# EAGLE library part 133-022-03 (library dec-con)
Pseudo-edge connector, 22 pins .156" spacing.
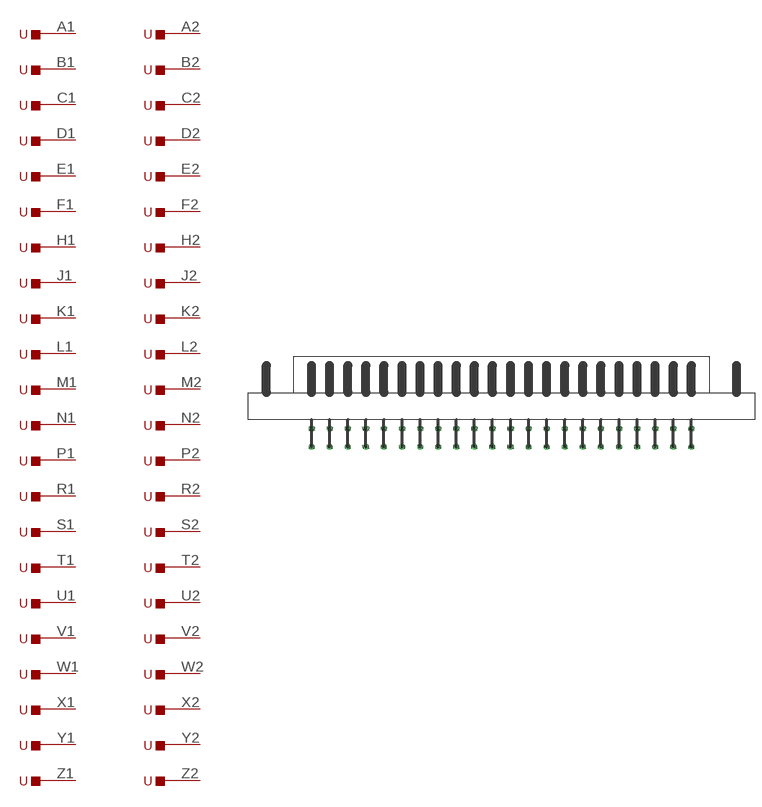
[diagram p45: symbol with the pads of 133-022-03; footprint 133-022-03]

Designator prefix U; gates A1=PIN B1=PIN C1=PIN D1=PIN E1=PIN F1=PIN H1=PIN J1=PIN K1=PIN L1=PIN M1=PIN N1=PIN P1=PIN R1=PIN S1=PIN T1=PIN U1=PIN V1=PIN W1=PIN X1=PIN Y1=PIN Z1=PIN A2=PIN B2=PIN C2=PIN D2=PIN E2=PIN F2=PIN H2=PIN J2=PIN K2=PIN L2=PIN M2=PIN N2=PIN P2=PIN R2=PIN S2=PIN T2=PIN U2=PIN V2=PIN W2=PIN X2=PIN Y2=PIN Z2=PIN

## 133-022-03  [133-022-03]
A1  A1:P  pas
A2  A2:P  pas
B1  B1:P  pas
B2  B2:P  pas
C1  C1:P  pas
C2  C2:P  pas
D1  D1:P  pas
D2  D2:P  pas
E1  E1:P  pas
E2  E2:P  pas
F1  F1:P  pas
F2  F2:P  pas
H1  H1:P  pas
H2  H2:P  pas
J1  J1:P  pas
J2  J2:P  pas
K1  K1:P  pas
K2  K2:P  pas
L1  L1:P  pas
L2  L2:P  pas
M1  M1:P  pas
M2  M2:P  pas
N1  N1:P  pas
N2  N2:P  pas
P1  P1:P  pas
P2  P2:P  pas
R1  R1:P  pas
R2  R2:P  pas
S1  S1:P  pas
S2  S2:P  pas
T1  T1:P  pas
T2  T2:P  pas
U1  U1:P  pas
U2  U2:P  pas
V1  V1:P  pas
V2  V2:P  pas
W1  W1:P  pas
W2  W2:P  pas
X1  X1:P  pas
X2  X2:P  pas
Y1  Y1:P  pas
Y2  Y2:P  pas
Z1  Z1:P  pas
Z2  Z2:P  pas

## Footprint 133-022-03 (pad centres in mm)
Pseudo-edge connector with .156 inch spacing.
drill 0.813 octagon: A1 83.21,0; A2 83.21,3.962; B1 79.248,0; B2 79.248,3.962; C1 75.286,0; C2 75.286,3.962; D1 71.323,0; D2 71.323,3.962; E1 67.361,0; E2 67.361,3.962; F1 63.398,0; F2 63.398,3.962; H1 59.436,0; H2 59.436,3.962; J1 55.474,0; J2 55.474,3.962; K1 51.511,0; K2 51.511,3.962; L1 47.549,0; L2 47.549,3.962; M1 43.586,0; M2 43.586,3.962; N1 39.624,0; N2 39.624,3.962; P1 35.662,0; P2 35.662,3.962; R1 31.699,0; R2 31.699,3.962; S1 27.737,0; S2 27.737,3.962; T1 23.774,0; T2 23.774,3.962; U1 19.812,0; U2 19.812,3.962; V1 15.85,0; V2 15.85,3.962; W1 11.887,0; W2 11.887,3.962; X1 7.925,0; X2 7.925,3.962; Y1 3.962,0; Y2 3.962,3.962; Z1 0,0; Z2 0,3.962